# Altium schematic symbol library SJ-43617-SMT-TR.SchLib: 1 symbol
Pins are listed as number, name and electrical type; pins without a type are passive.

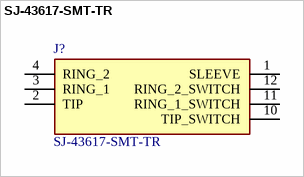
[diagram p0: symbol SJ-43617-SMT-TR]

## SJ-43617-SMT-TR
designator J?
3.5 mm, Right Angle, Mid Mount (SMT), 4 Conductors, 1 Internal Switch, Audio Jack Connector; Manufacturer_Name: Same Sky; Geometry.Height: 5.4mm; Mouser Part Number: 490-SJ-43617-SMT-TR; Mouser Price/Stock: https://www.mouser.co.uk/ProductDetail/Same-Sky/SJ-43617-SMT-TR?qs=WyjlAZoYn52vhGUiAWRAtA%3D%3D; Manufacturer_Part_Number: SJ-43617-SMT-TR; Datasheet Link: https://www.sameskydevices.com/product/resource/sj-4361x-smt.pdf
footprint SJ43617SMTTR
pins: 1 SLEEVE, 2 TIP, 3 RING_1, 4 RING_2, 10 TIP_SWITCH, 11 RING_1_SWITCH, 12 RING_2_SWITCH